# Altium integrated library ON Semi RF and IF Modulator-Demodulator.IntLib: 7 symbols
Pins are listed as number, name and electrical type; pins without a type are passive.

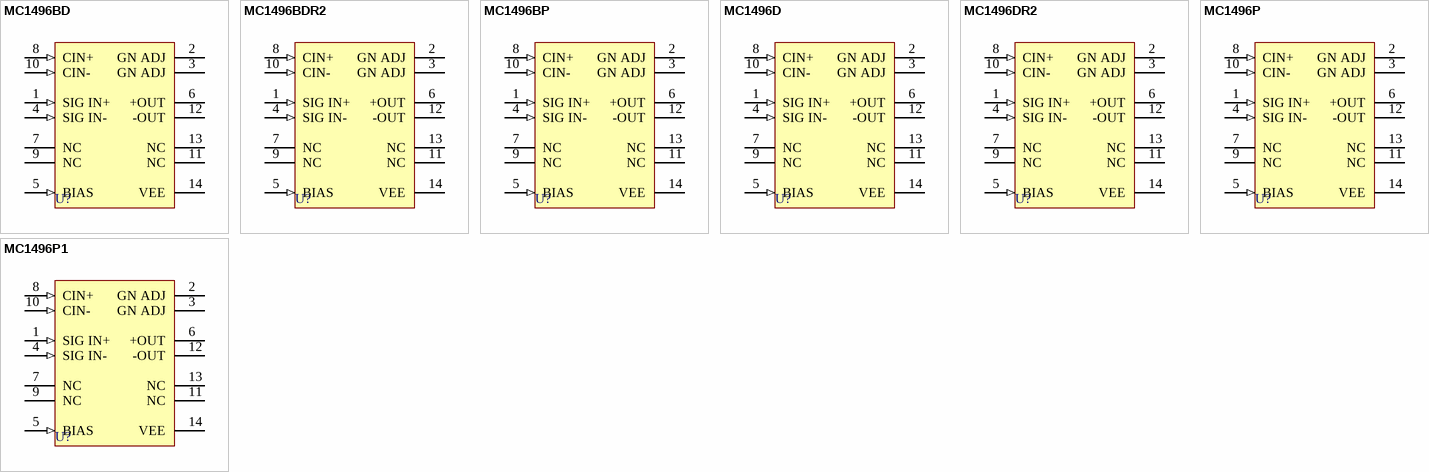
[diagram p0: symbols MC1496BD to MC1496P1]

## MC1496BD
designator U?
Balanced Modulator/Demodulator; Published: 28-Feb-2003; LatestRevisionDate: 13-Apr-2006; LatestRevisionNote: IPC-7351 Footprint Added.; DatasheetVersion: Sep-2001, Rev. 6; PackageReference: 751A-03; Publisher: Altium Limited; PackageDescription: 14-Pin Small Outline Integrated Circuit 1.27 mm Pitch; Code_JEDEC: MS-012-AB; Code_IPC: SOIC127P600-14; ComponentLink1Description: Manufacturer Link; ComponentLink1URL: http://www.onsemi.com/; ComponentLink2Description: Datasheet; ComponentLink2URL: http://www.onsemi.com/pub/Collateral/MC1496-D.PDF
footprint 751A-03_N (SOIC, 14-Leads, Body 8.7x3.9mm, Pitch 1.27mm, IPC Medium Density)
footprint 751A-03_L (SOIC, 14-Leads, Body 8.7x3.9mm, Pitch 1.27mm, IPC High Density)
footprint 751A-03_M (SOIC, 14-Leads, Body 8.7x3.9mm, Pitch 1.27mm, IPC Low Density)
pins: 1 SIG IN+ (in), 2 GN ADJ, 3 GN ADJ, 4 SIG IN- (in), 5 BIAS (in), 6 +OUT (oc), 7 NC, 8 CIN+ (in), 9 NC, 10 CIN- (in), 11 NC, 12 -OUT (oc), 13 NC, 14 VEE (power)

## MC1496BDR2
designator U?
Balanced Modulator/Demodulator; Published: 28-Feb-2003; LatestRevisionDate: 13-Apr-2006; LatestRevisionNote: IPC-7351 Footprint Added.; DatasheetVersion: Sep-2001, Rev. 6; PackageReference: 751A-03; Publisher: Altium Limited; PackageDescription: 14-Pin Small Outline Integrated Circuit 1.27 mm Pitch; Code_JEDEC: MS-012-AB; Code_IPC: SOIC127P600-14; ComponentLink1Description: Manufacturer Link; ComponentLink1URL: http://www.onsemi.com/; ComponentLink2Description: Datasheet; ComponentLink2URL: http://www.onsemi.com/pub/Collateral/MC1496-D.PDF
footprint 751A-03_N (SOIC, 14-Leads, Body 8.7x3.9mm, Pitch 1.27mm, IPC Medium Density)
footprint 751A-03_L (SOIC, 14-Leads, Body 8.7x3.9mm, Pitch 1.27mm, IPC High Density)
footprint 751A-03_M (SOIC, 14-Leads, Body 8.7x3.9mm, Pitch 1.27mm, IPC Low Density)
pins: 1 SIG IN+ (in), 2 GN ADJ, 3 GN ADJ, 4 SIG IN- (in), 5 BIAS (in), 6 +OUT (oc), 7 NC, 8 CIN+ (in), 9 NC, 10 CIN- (in), 11 NC, 12 -OUT (oc), 13 NC, 14 VEE (power)

## MC1496BP
designator U?
Balanced Modulator/Demodulator; Published: 28-Feb-2003; DatasheetVersion: Sep-2001, Rev. 6; PackageVersion: 1995; PackageReference: 646-06; Publisher: Altium Limited; PackageDescription: DIP; 14 Leads; Row Spacing 7.62 mm; Pitch 2.54 mm; ComponentLink1Description: Manufacturer Link; ComponentLink1URL: http://www.onsemi.com/; ComponentLink2Description: Datasheet; ComponentLink2URL: http://www.onsemi.com/pub/Collateral/MC1496-D.PDF
footprint 646-06 (DIP; 14 Leads; Row Spacing 7.62 mm; Pitch 2.54 mm)
pins: 1 SIG IN+ (in), 2 GN ADJ, 3 GN ADJ, 4 SIG IN- (in), 5 BIAS (in), 6 +OUT (oc), 7 NC, 8 CIN+ (in), 9 NC, 10 CIN- (in), 11 NC, 12 -OUT (oc), 13 NC, 14 VEE (power)

## MC1496D
designator U?
Balanced Modulator/Demodulator; Published: 28-Feb-2003; LatestRevisionDate: 13-Apr-2006; LatestRevisionNote: IPC-7351 Footprint Added.; DatasheetVersion: Sep-2001, Rev. 6; PackageReference: 751A-03; Publisher: Altium Limited; PackageDescription: 14-Pin Small Outline Integrated Circuit 1.27 mm Pitch; Code_JEDEC: MS-012-AB; Code_IPC: SOIC127P600-14; ComponentLink1Description: Manufacturer Link; ComponentLink1URL: http://www.onsemi.com/; ComponentLink2Description: Datasheet; ComponentLink2URL: http://www.onsemi.com/pub/Collateral/MC1496-D.PDF
footprint 751A-03_N (SOIC, 14-Leads, Body 8.7x3.9mm, Pitch 1.27mm, IPC Medium Density)
footprint 751A-03_L (SOIC, 14-Leads, Body 8.7x3.9mm, Pitch 1.27mm, IPC High Density)
footprint 751A-03_M (SOIC, 14-Leads, Body 8.7x3.9mm, Pitch 1.27mm, IPC Low Density)
pins: 1 SIG IN+ (in), 2 GN ADJ, 3 GN ADJ, 4 SIG IN- (in), 5 BIAS (in), 6 +OUT (oc), 7 NC, 8 CIN+ (in), 9 NC, 10 CIN- (in), 11 NC, 12 -OUT (oc), 13 NC, 14 VEE (power)

## MC1496DR2
designator U?
Balanced Modulator/Demodulator; Published: 28-Feb-2003; LatestRevisionDate: 13-Apr-2006; LatestRevisionNote: IPC-7351 Footprint Added.; DatasheetVersion: Sep-2001, Rev. 6; PackageReference: 751A-03; Publisher: Altium Limited; PackageDescription: 14-Pin Small Outline Integrated Circuit 1.27 mm Pitch; Code_JEDEC: MS-012-AB; Code_IPC: SOIC127P600-14; ComponentLink1Description: Manufacturer Link; ComponentLink1URL: http://www.onsemi.com/; ComponentLink2Description: Datasheet; ComponentLink2URL: http://www.onsemi.com/pub/Collateral/MC1496-D.PDF
footprint 751A-03_N (SOIC, 14-Leads, Body 8.7x3.9mm, Pitch 1.27mm, IPC Medium Density)
footprint 751A-03_L (SOIC, 14-Leads, Body 8.7x3.9mm, Pitch 1.27mm, IPC High Density)
footprint 751A-03_M (SOIC, 14-Leads, Body 8.7x3.9mm, Pitch 1.27mm, IPC Low Density)
pins: 1 SIG IN+ (in), 2 GN ADJ, 3 GN ADJ, 4 SIG IN- (in), 5 BIAS (in), 6 +OUT (oc), 7 NC, 8 CIN+ (in), 9 NC, 10 CIN- (in), 11 NC, 12 -OUT (oc), 13 NC, 14 VEE (power)

## MC1496P
designator U?
Balanced Modulator/Demodulator; Published: 28-Feb-2003; DatasheetVersion: Sep-2001, Rev. 6; PackageVersion: 1995; PackageReference: 646-06; Publisher: Altium Limited; PackageDescription: DIP; 14 Leads; Row Spacing 7.62 mm; Pitch 2.54 mm; ComponentLink1Description: Manufacturer Link; ComponentLink1URL: http://www.onsemi.com/; ComponentLink2Description: Datasheet; ComponentLink2URL: http://www.onsemi.com/pub/Collateral/MC1496-D.PDF
footprint 646-06 (DIP; 14 Leads; Row Spacing 7.62 mm; Pitch 2.54 mm)
pins: 1 SIG IN+ (in), 2 GN ADJ, 3 GN ADJ, 4 SIG IN- (in), 5 BIAS (in), 6 +OUT (oc), 7 NC, 8 CIN+ (in), 9 NC, 10 CIN- (in), 11 NC, 12 -OUT (oc), 13 NC, 14 VEE (power)

## MC1496P1
designator U?
Balanced Modulator/Demodulator; Published: 28-Feb-2003; DatasheetVersion: Sep-2001, Rev. 6; PackageVersion: 1995; PackageReference: 646-06; Publisher: Altium Limited; PackageDescription: DIP; 14 Leads; Row Spacing 7.62 mm; Pitch 2.54 mm; ComponentLink1Description: Manufacturer Link; ComponentLink1URL: http://www.onsemi.com/; ComponentLink2Description: Datasheet; ComponentLink2URL: http://www.onsemi.com/pub/Collateral/MC1496-D.PDF
footprint 646-06 (DIP; 14 Leads; Row Spacing 7.62 mm; Pitch 2.54 mm)
pins: 1 SIG IN+ (in), 2 GN ADJ, 3 GN ADJ, 4 SIG IN- (in), 5 BIAS (in), 6 +OUT (oc), 7 NC, 8 CIN+ (in), 9 NC, 10 CIN- (in), 11 NC, 12 -OUT (oc), 13 NC, 14 VEE (power)